# Altium footprint library ICs.PcbLib: 22 footprints (part 2 of 2)
Each footprint in its own frame and in the unit in brackets; x right, y up, seen from the top. Pads: shape width x height; smd on the part's side, far side on the other; paste and mask are expansions set on the pad; w line width, h text height; cw(c..) or ccw(c..) is an arc to the next point about the centre after c.
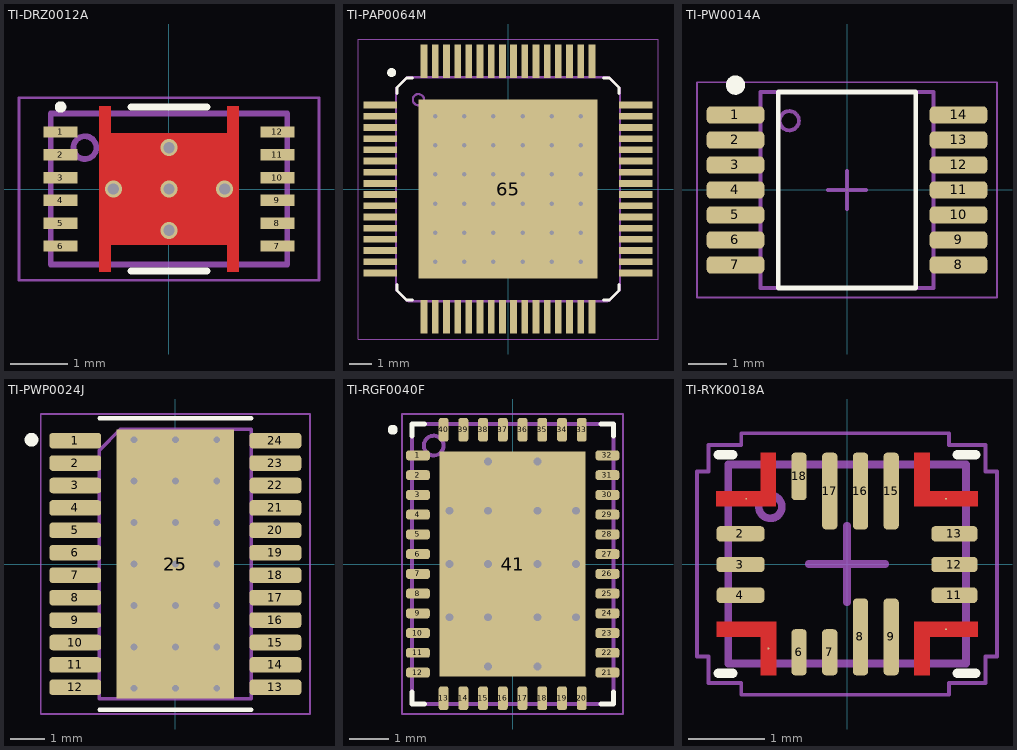
[diagram p1: the footprints below, top view; thin cyan lines are the x and y axes]

## TI-DRZ0012A [mm] "BQ27411-G1"
height 1
pads (13):
  rect 0.6x0.2 smd mask+0.05: 1(-1.9,1) 2(-1.9,0.6) 3(-1.9,0.2) 4(-1.9,-0.2) 5(-1.9,-0.6) 6(-1.9,-1) 7(1.9,-1) 8(1.9,-0.6) 9(1.9,-0.2) 10(1.9,0.2) 11(1.9,0.6) 12(1.9,1)
  round 0.025 smd paste-1.225 mask+0.05: 13(0,0)
via -0.975,0 diameter 0.3 hole 0.2
via 0.975,0 diameter 0.3 hole 0.2
via 0,-0.725 diameter 0.3 hole 0.2
via 0,0.725 diameter 0.3 hole 0.2
via 0,0 diameter 0.3 hole 0.2
Top Layer:
  region: -1.225,1.45 -1.025,1.45 -1.025,0.975 1.025,0.975 1.025,1.45 1.225,1.45 1.225,-1.45 1.025,-1.45 1.025,-0.975 -1.025,-0.975 -1.025,-1.45 -1.225,-1.45
Top Overlay:
  circle w0.1: c-1.9,1.439 r0.05
  lines w0.127: -0.661,-1.438 0.661,-1.438 ; -0.661,1.439 0.661,1.439
Top Paste:
  rectangle: -1.225,-1.45 -1.025,-1.075
  rectangle: 1.025,-1.45 1.225,-1.075
  rectangle: -1.225,1.075 -1.025,1.45
  rectangle: 1.025,1.075 1.225,1.45
  rectangle: -1.18,-0.875 -0.1,0.875
  rectangle: 0.1,-0.875 1.18,0.875
Top Assembly:
  circle w0.1: c-1.475,0.725 r0.2
  lines w0.1: -2.075,-1.325 2.075,-1.325 2.075,1.325 -2.075,1.325 -2.075,-1.325
  text ".Designator" at -1.578,-0.158 h0.7
Top Courtyard:
  lines w0.05: -2.63,-1.6 2.63,-1.6 2.63,1.6 -2.63,1.6 -2.63,-1.6
  lines w0.1: -0.5,0 0.5,0 ; 0,-0.5 0,0.5
3D body "SON40P400X100-12N.step": height 1, standoff 0, extent -2.125,-1.325 2.125,1.325

## TI-PAP0064M [mm] "TUSB4041I"
height 1.2
pads (65):
  rect 1.5x0.3 smd mask+0.05: 1(-5.7,3.75) 2(-5.7,3.25) 3(-5.7,2.75) 4(-5.7,2.25) 5(-5.7,1.75) 6(-5.7,1.25) 7(-5.7,0.75) 8(-5.7,0.25) 9(-5.7,-0.25) 10(-5.7,-0.75) 11(-5.7,-1.25) 12(-5.7,-1.75) 13(-5.7,-2.25) 14(-5.7,-2.75) 15(-5.7,-3.25) 16(-5.7,-3.75) 33(5.7,-3.75) 34(5.7,-3.25) 35(5.7,-2.75) 36(5.7,-2.25) 37(5.7,-1.75) 38(5.7,-1.25) 39(5.7,-0.75) 40(5.7,-0.25) 41(5.7,0.25) 42(5.7,0.75) 43(5.7,1.25) 44(5.7,1.75) 45(5.7,2.25) 46(5.7,2.75) 47(5.7,3.25) 48(5.7,3.75)
  rect 0.3x1.5 smd mask+0.05: 17(-3.75,-5.7) 18(-3.25,-5.7) 19(-2.75,-5.7) 20(-2.25,-5.7) 21(-1.75,-5.7) 22(-1.25,-5.7) 23(-0.75,-5.7) 24(-0.25,-5.7) 25(0.25,-5.7) 26(0.75,-5.7) 27(1.25,-5.7) 28(1.75,-5.7) 29(2.25,-5.7) 30(2.75,-5.7) 31(3.25,-5.7) 32(3.75,-5.7) 49(3.75,5.7) 50(3.25,5.7) 51(2.75,5.7) 52(2.25,5.7) 53(1.75,5.7) 54(1.25,5.7) 55(0.75,5.7) 56(0.25,5.7) 57(-0.25,5.7) 58(-0.75,5.7) 59(-1.25,5.7) 60(-1.75,5.7) 61(-2.25,5.7) 62(-2.75,5.7) 63(-3.25,5.7) 64(-3.75,5.7)
  rect 8x8 smd paste-2539.97 mask-3.988: 65(0,0)
via 3.25,3.25 diameter 0.4 hole 0.2
via 1.95,3.25 diameter 0.4 hole 0.2
via 0.65,3.25 diameter 0.4 hole 0.2
via -0.65,3.25 diameter 0.4 hole 0.2
via -3.25,3.25 diameter 0.4 hole 0.2
via -1.95,3.25 diameter 0.4 hole 0.2
via 3.25,1.95 diameter 0.4 hole 0.2
via 1.95,1.95 diameter 0.4 hole 0.2
via 0.65,1.95 diameter 0.4 hole 0.2
via -0.65,1.95 diameter 0.4 hole 0.2
via -3.25,1.95 diameter 0.4 hole 0.2
via -1.95,1.95 diameter 0.4 hole 0.2
via 3.25,0.65 diameter 0.4 hole 0.2
via 1.95,0.65 diameter 0.4 hole 0.2
via 0.65,0.65 diameter 0.4 hole 0.2
via -0.65,0.65 diameter 0.4 hole 0.2
via -3.25,0.65 diameter 0.4 hole 0.2
via -1.95,0.65 diameter 0.4 hole 0.2
via 3.25,-0.65 diameter 0.4 hole 0.2
via 1.95,-0.65 diameter 0.4 hole 0.2
via 0.65,-0.65 diameter 0.4 hole 0.2
via -0.65,-0.65 diameter 0.4 hole 0.2
via -3.25,-0.65 diameter 0.4 hole 0.2
via -1.95,-0.65 diameter 0.4 hole 0.2
via 3.25,-1.95 diameter 0.4 hole 0.2
via 1.95,-1.95 diameter 0.4 hole 0.2
via 0.65,-1.95 diameter 0.4 hole 0.2
via -0.65,-1.95 diameter 0.4 hole 0.2
via -3.25,-1.95 diameter 0.4 hole 0.2
via -1.95,-1.95 diameter 0.4 hole 0.2
via 3.25,-3.25 diameter 0.4 hole 0.2
via 1.95,-3.25 diameter 0.4 hole 0.2
via 0.65,-3.25 diameter 0.4 hole 0.2
via -0.65,-3.25 diameter 0.4 hole 0.2
via -3.25,-3.25 diameter 0.4 hole 0.2
via -1.95,-3.25 diameter 0.4 hole 0.2
Top Overlay:
  circle w0.2: c-5.2,5.2 r0.1
  lines w0.127: -4.963,-4.263 -4.963,-4.527 -4.537,-4.953 -4.263,-4.953 ; -4.963,4.263 -4.963,4.527 -4.537,4.953 -4.263,4.953 ; 4.263,-4.953 4.537,-4.953 4.963,-4.527 4.963,-4.263 ; 4.263,4.953 4.537,4.953 4.963,4.527 4.963,4.263
Top Paste:
  rectangle: -2.22,-2.22 2.22,2.22
Top Solder:
  region: -2.319,-2.283 -2.32,-2.274 -2.32,2.274 -2.319,2.283 -2.316,2.291 -2.312,2.299 -2.306,2.306 -2.299,2.312 -2.291,2.316 -2.283,2.319 -2.274,2.32 2.274,2.32 2.283,2.319 2.291,2.316 2.299,2.312 2.306,2.306 2.312,2.299 2.316,2.291 2.319,2.283 2.32,2.274 2.32,-2.274 2.319,-2.283 2.316,-2.291 2.312,-2.299 2.306,-2.306 2.299,-2.312 2.291,-2.316 2.283,-2.319 2.274,-2.32 -2.274,-2.32 -2.283,-2.319 -2.291,-2.316 -2.299,-2.312 -2.306,-2.306 -2.312,-2.299 -2.316,-2.291
Top Assembly:
  circle w0.1: c-4,3.99 r0.25
  lines w0.1: -5,-4.458 ccw(c-4.873,-4.457) -4.963,-4.547 -4.537,-4.973 ccw(c-4.447,-4.883) -4.448,-5.01 4.448,-5.01 ccw(c4.447,-4.883) 4.537,-4.973 4.963,-4.547 ccw(c4.873,-4.457) 5,-4.458 5,4.438 ccw(c4.873,4.437) 4.963,4.527 4.537,4.953 ccw(c4.447,4.863) 4.448,4.99 -4.448,4.99 ccw(c-4.447,4.863) -4.537,4.953 -4.963,4.527 ccw(c-4.873,4.437) -5,4.438 -5,-4.458
  text "'.Designator'" at -2.417,-0.226 h1
Top Courtyard:
  lines w0.05: -6.7,-6.7 6.7,-6.7 6.7,6.7 -6.7,6.7 -6.7,-6.7
  lines w0.1: -0.5,0 0.5,0 ; 0,-0.5 0,0.5
3D body "PAP0064K.stp": height 1.1, standoff 0, extent -6.015,-6.015 6.015,6.015

## TI-PW0014A [mm] "RF430CL330H"
height 1.2
pads (14):
  rrect50% 1.5x0.45 smd mask+0.05: 1(-2.9,1.95) 2(-2.9,1.3) 3(-2.9,0.65) 4(-2.9,0) 5(-2.9,-0.65) 6(-2.9,-1.3) 7(-2.9,-1.95) 8(2.9,-1.95) 9(2.9,-1.3) 10(2.9,-0.65) 11(2.9,0) 12(2.9,0.65) 13(2.9,1.3) 14(2.9,1.95)
Top Overlay:
  circle w0.25: c-2.9,2.725 r0.125
  lines w0.127: -1.786,-2.55 1.786,-2.55 1.786,2.55 -1.786,2.55 -1.786,-2.55
Top Assembly:
  circle w0.1: c-1.5,1.8 r0.25
  lines w0.1: -2.25,-2.55 2.25,-2.55 2.25,2.55 -2.25,2.55 -2.25,-2.55
  text ".Designator" at -1.801,-0.181 h0.8
Top Courtyard:
  lines w0.05: -3.9,-2.8 3.9,-2.8 3.9,2.8 -3.9,2.8 -3.9,-2.8
  lines w0.1: -0.5,0 0.5,0 ; 0,-0.5 0,0.5
3D body "TSOP65P640X120-14N.step": height 1.2, standoff 0, extent -3.2,-2.55 3.2,2.55

## TI-PWP0024J [mm] "LM5122"
height 1.2
pads (25):
  rrect40% 1.5x0.45 smd mask+0.07: 1(-2.9,3.575) 2(-2.9,2.925) 3(-2.9,2.275) 4(-2.9,1.625) 5(-2.9,0.975) 6(-2.9,0.325) 7(-2.9,-0.325) 8(-2.9,-0.975) 9(-2.9,-1.625) 10(-2.9,-2.275) 11(-2.9,-2.925) 12(-2.9,-3.575) 13(2.9,-3.575) 14(2.9,-2.925) 15(2.9,-2.275) 16(2.9,-1.625) 17(2.9,-0.975) 18(2.9,-0.325) 19(2.9,0.325) 20(2.9,0.975) 21(2.9,1.625) 22(2.9,2.275) 23(2.9,2.925) 24(2.9,3.575)
  rect 3.4x7.8 smd paste-5 mask+0: 25(0,0)
via 1.2,3.6 diameter 0.3 hole 0.2
via 0,3.6 diameter 0.3 hole 0.2
via -1.2,3.6 diameter 0.3 hole 0.2
via 1.2,2.4 diameter 0.3 hole 0.2
via 0,2.4 diameter 0.3 hole 0.2
via -1.2,2.4 diameter 0.3 hole 0.2
via 1.2,1.2 diameter 0.3 hole 0.2
via 0,1.2 diameter 0.3 hole 0.2
via -1.2,1.2 diameter 0.3 hole 0.2
via 1.2,0 diameter 0.3 hole 0.2
via 0,0 diameter 0.3 hole 0.2
via -1.2,0 diameter 0.3 hole 0.2
via 1.2,-1.2 diameter 0.3 hole 0.2
via 0,-1.2 diameter 0.3 hole 0.2
via -1.2,-1.2 diameter 0.3 hole 0.2
via 1.2,-2.4 diameter 0.3 hole 0.2
via 0,-2.4 diameter 0.3 hole 0.2
via -1.2,-2.4 diameter 0.3 hole 0.2
via 1.2,-3.6 diameter 0.3 hole 0.2
via 0,-3.6 diameter 0.3 hole 0.2
via -1.2,-3.6 diameter 0.3 hole 0.2
Top Overlay:
  circle w0.2: c-4.17,3.6 r0.1
  lines w0.127: -2.2,-4.22 2.2,-4.22 ; -2.2,4.22 2.2,4.22
Top Paste:
  region: 1.6,-2.6 -1.6,-2.6 -1.6,2.6 1.6,2.6
Top Solder:
  region: 1.6,-2.6 -1.6,-2.6 -1.6,2.6 1.6,2.6
Top Assembly:
  lines w0.1: -2.2,-3.9 -2.2,3.3 -1.6,3.9 2.2,3.9 2.2,-3.9 -2.2,-3.9
  text "'.Designator'" at -1.932,-0.181 h0.8
Top Courtyard:
  lines w0.05: -3.9,-4.347 -3.9,4.347 3.9,4.347 3.9,-4.347 -3.9,-4.347
  lines w0.1: -0.5,0 0.5,0 ; 0,-0.5 0,0.5
3D body "step_temp.STEP": height 1.2, standoff 0, extent -3.2,-3.9 3.2,3.9

## TI-RGF0040F [mm] "DRV8329-Q1"
height 1
pads (41):
  rrect50% 0.6x0.25 smd mask+0.07: 1(-2.4,2.75) 2(-2.4,2.25) 3(-2.4,1.75) 4(-2.4,1.25) 5(-2.4,0.75) 6(-2.4,0.25) 7(-2.4,-0.25) 8(-2.4,-0.75) 9(-2.4,-1.25) 10(-2.4,-1.75) 11(-2.4,-2.25) 12(-2.4,-2.75) 21(2.4,-2.75) 22(2.4,-2.25) 23(2.4,-1.75) 24(2.4,-1.25) 25(2.4,-0.75) 26(2.4,-0.25) 27(2.4,0.25) 28(2.4,0.75) 29(2.4,1.25) 30(2.4,1.75) 31(2.4,2.25) 32(2.4,2.75)
  rrect50% 0.25x0.6 smd mask+0.07: 13(-1.75,-3.4) 14(-1.25,-3.4) 15(-0.75,-3.4) 16(-0.25,-3.4) 17(0.25,-3.4) 18(0.75,-3.4) 19(1.25,-3.4) 20(1.75,-3.4) 33(1.75,3.4) 34(1.25,3.4) 35(0.75,3.4) 36(0.25,3.4) 37(-0.25,3.4) 38(-0.75,3.4) 39(-1.25,3.4) 40(-1.75,3.4)
  rect 3.7x5.7 smd paste-1.85 mask+0.07: 41(0,0)
via -1.6,-1.35 diameter 0.3 hole 0.2
via -0.625,-1.35 diameter 0.3 hole 0.2
via 0.625,-1.35 diameter 0.3 hole 0.2
via 1.6,-1.35 diameter 0.3 hole 0.2
via 0.625,2.6 diameter 0.3 hole 0.2
via -0.625,2.6 diameter 0.3 hole 0.2
via 1.6,1.35 diameter 0.3 hole 0.2
via 0.625,1.35 diameter 0.3 hole 0.2
via -0.625,1.35 diameter 0.3 hole 0.2
via -1.6,1.35 diameter 0.3 hole 0.2
via 1.6,0 diameter 0.3 hole 0.2
via 0.625,0 diameter 0.3 hole 0.2
via -0.625,0 diameter 0.3 hole 0.2
via -1.6,0 diameter 0.3 hole 0.2
via 0.625,-2.6 diameter 0.3 hole 0.2
via -0.625,-2.6 diameter 0.3 hole 0.2
Top Overlay:
  circle w0.15: c-3.038,3.4 r0.05
  lines w0.127: -2.55,-3.238 -2.55,-3.55 -2.238,-3.55 ; -2.55,3.238 -2.55,3.55 -2.238,3.55 ; 2.238,-3.55 2.55,-3.55 2.55,-3.238 ; 2.238,3.55 2.55,3.55 2.55,3.238
Top Paste:
  rectangle: -0.525,0.1 0.525,1.25
  rectangle: -1.775,1.45 -0.725,2.6
  rectangle: -1.775,0.1 -0.725,1.25
  rectangle: 0.725,0.1 1.775,1.25
  rectangle: -1.775,-1.25 -0.725,-0.1
  rectangle: -0.525,1.45 0.525,2.6
  rectangle: 0.725,1.45 1.775,2.6
  rectangle: 0.725,-2.6 1.775,-1.45
  rectangle: -0.525,-2.6 0.525,-1.45
  rectangle: -1.775,-2.6 -0.725,-1.45
  rectangle: 0.725,-1.25 1.775,-0.1
  rectangle: -0.525,-1.25 0.525,-0.1
Top Assembly:
  circle w0.1: c-2,3 r0.25
  lines w0.1: -2.55,-3.55 -2.55,3.55 2.55,3.55 2.55,-3.55 -2.55,-3.55
  text ".Designator" at -2.252,-0.226 h1
Top Courtyard:
  lines w0.05: -2.8,-3.8 -2.8,3.8 2.8,3.8 2.8,-3.8 -2.8,-3.8
  lines w0.1: -0.5,0 0.5,0 ; 0,-0.5 0,0.5
3D body "PQFN50P500X700X100_HS-41N.step": height 1, standoff 0, extent -2.55,-3.55 2.55,3.55

## TI-RYK0018A [mm] "BQ25622E"
height 0.8
pads (18):
  round 0.025 smd mask+0.05: 1(-1.313,0.85)
  rrect50% 0.625x0.2 smd mask+0.05: 2(-1.388,0.393) 3(-1.388,-0.007) 4(-1.388,-0.407)
  round 0.025 smd paste+0 mask+0.05: 5(-1.025,-1.1) 10(1.288,-0.85) 14(1.288,0.85)
  rrect50% 0.2x0.6 smd mask+0.05: 6(-0.625,-1.15) 7(-0.225,-1.15)
  rrect50% 0.2x1 smd mask+0.05: 8(0.175,-0.95) 9(0.575,-0.95) 15(0.575,0.95) 16(0.175,0.95) 17(-0.225,0.95)
  rrect50% 0.6x0.2 smd mask+0.05: 11(1.4,-0.407) 12(1.4,-0.007) 13(1.4,0.393)
  rrect50% 0.2x0.619 smd mask+0.05: 18(-0.625,1.141)
Top Layer:
  region: 1.075,-1.45 0.875,-1.45 0.875,-0.75 1.7,-0.75 1.7,-0.95 1.075,-0.95
  region: -1.125,1.45 -0.925,1.45 -0.925,0.75 -1.7,0.75 -1.7,0.95 -1.125,0.95
  region: -1.125,-1.45 -0.925,-1.45 -0.925,-0.75 -1.7,-0.75 -1.7,-0.95 -1.125,-0.95
  region: 1.075,1.45 0.875,1.45 0.875,0.75 1.7,0.75 1.7,0.95 1.075,0.95
Top Overlay:
  lines w0.127: -1.676,-1.422 -1.489,-1.422 ; -1.676,1.422 -1.489,1.422 ; 1.439,-1.422 1.676,-1.422 ; 1.439,1.422 1.676,1.422
Top Assembly:
  circle w0.1: c-0.999,0.745 r0.15
  lines w0.1: -1.549,-1.295 -1.549,1.295 1.549,1.295 1.549,-1.295 -1.549,-1.295
  text ".Designator" at -1.126,-0.113 h0.5
Top Courtyard:
  lines w0.05: -1.955,-1.204 -1.955,1.204 -1.803,1.204 -1.803,1.549 -1.379,1.549 -1.379,1.704 1.329,1.704 1.329,1.549 1.803,1.549 1.803,1.204 1.954,1.204 1.954,-1.204 1.803,-1.204 1.803,-1.549 1.329,-1.549 1.329,-1.704 -1.379,-1.704 -1.379,-1.549 -1.803,-1.549 -1.803,-1.204 -1.955,-1.204
  lines w0.1: -0.5,0 0.5,0 ; 0,-0.5 0,0.5
3D body "RYK0018A.stp": height 0.8, standoff 0, extent -1.5,-1.25 1.5,1.25